# Altium integrated library NSC MiscPower.IntLib: 1417 symbols (part 11 of 39)
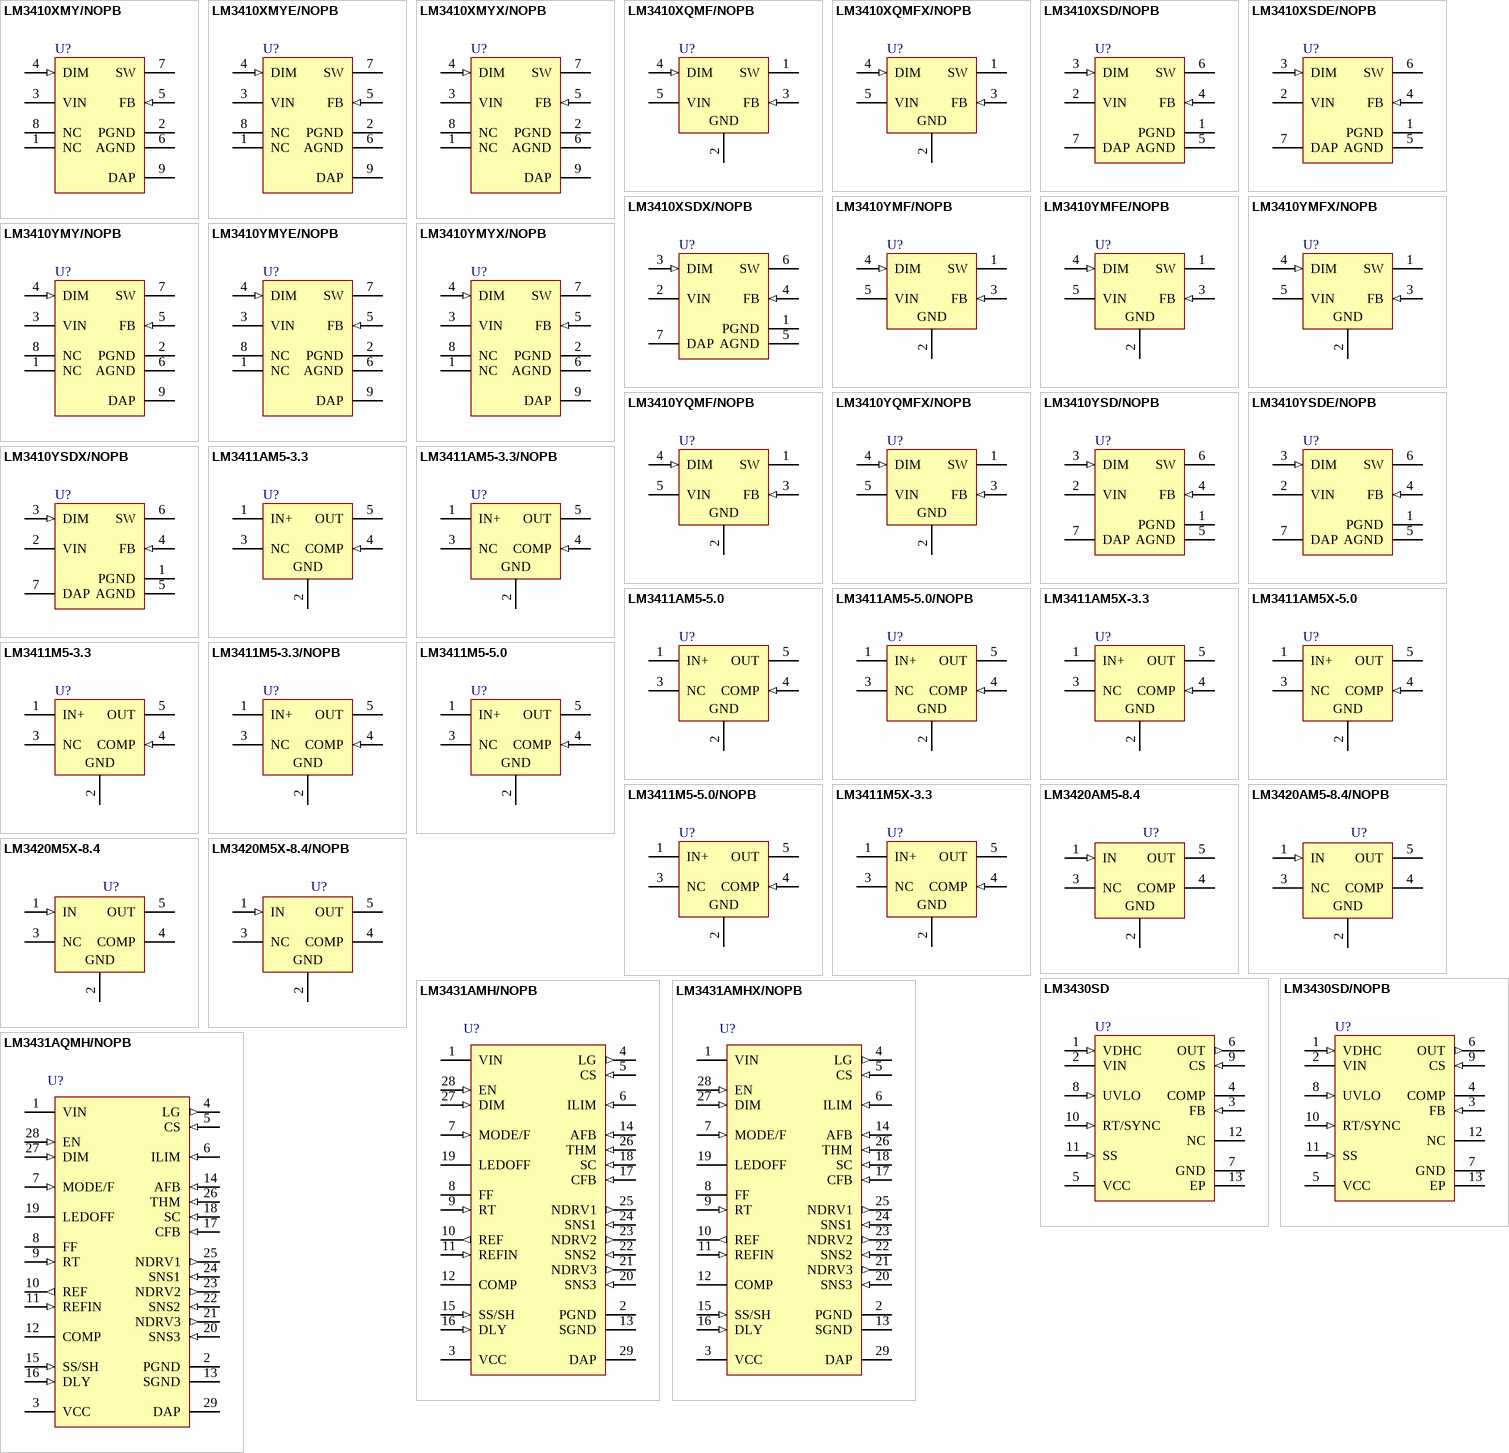
[diagram p61: symbols LM3410XMY/NOPB to LM3431AQMH/NOPB]

## LM3410YMYX/NOPB
designator U?
525kHz/1.6MHz, Constant Current Boost and SEPIC LED Driver with Internal Compensation, 8-pin eMSOP, Pb-Free; PartNumber: LM3410YMYX/NOPB; Manufacturer: National Semiconductor; PackageTopMarking: ZXTT*STAB; PowerWise: Y; CompType: MiscPower; Published: 1-Mar-2010; DatasheetVersion: May-2009; PackageVersion: revA, Nov-2003; PackageReference: MUY08A; Publisher: Altium Limited; PackageDescription: Molded Mini-SO, Exposed Pad, .118 x .118 x .034in Body, 8 Lead, .0256in Pitch; Supplier 1: Digi-Key; Supplier Part Number 1: LM3410YMYX-ND; RoHS: Y; PinCount: 8; Code_JEDEC: MO-187-AA; ComponentLink1Description: LM3410 Datasheet; ComponentLink1URL: http://www.national.com/ds/LM/LM3410.pdf; ComponentLink2Description: LM3410 Web Page; ComponentLink2URL: http://www.national.com/pf/LM/LM3410.html; ComponentLink3Description: MUY08A Package Page; ComponentLink3URL: http://www.national.com/packaging/folders/muy08a.html
footprint MUY08A_N (TSOP, 8-Leads, Body 3x3mm, Pitch 0.65mm, Exposed Pad, IPC Medium Density)
footprint MUY08A_L (TSOP, 8-Leads, Body 3x3mm, Pitch 0.65mm, Exposed Pad, IPC High Density)
footprint MUY08A_M (TSOP, 8-Leads, Body 3x3mm, Pitch 0.65mm, Exposed Pad, IPC Low Density)
pins: 1 NC, 2 PGND (power), 3 VIN (power), 4 DIM (in), 5 FB (in), 6 AGND (power), 7 SW (power), 8 NC, 9 DAP (power)

## LM3410YQMF/NOPB
designator U?
525kHz/1.6MHz, Constant Current Boost and SEPIC LED Driver with Internal Compensation, 5-pin SOT-23, Pb-Free; PartNumber: LM3410YQMF/NOPB; Manufacturer: National Semiconductor; PackageTopMarking: SXXB*XTT; PowerWise: N; CompType: MiscPower; Published: 1-Mar-2010; DatasheetVersion: May-2009; PackageVersion: revD, Aug-2008; PackageReference: MF05A; Publisher: Altium Limited; PackageDescription: Molded SOT-23, .115 x .063 x .040 in Body, 5 Lead, .0375 in Pitch; Supplier 1: Digi-Key; Supplier Part Number 1: LM3410YQMFTR-ND; Supplier 2: Digi-Key; Supplier Part Number 2: LM3410YQMFCT-ND; Supplier 3: Digi-Key; Supplier Part Number 3: LM3410YQMFDKR-ND; RoHS: Y; PinCount: 5; ComponentLink1Description: LM3410 Datasheet; ComponentLink1URL: http://www.national.com/ds/LM/LM3410.pdf; ComponentLink2Description: LM3410 Web Page; ComponentLink2URL: http://www.national.com/pf/LM/LM3410.html; ComponentLink3Description: MF05A Package Page; ComponentLink3URL: http://www.national.com/packaging/folders/mf05a.html
footprint MF05A_N (SOT23, 5-Leads, Body 2.9x1.6mm, Pitch 0.95mm, Lead Span 2.8mm, IPC Medium Density)
footprint MF05A_L (SOT23, 5-Leads, Body 2.9x1.6mm, Pitch 0.95mm, Lead Span 2.8mm, IPC High Density)
footprint MF05A_M (SOT23, 5-Leads, Body 2.9x1.6mm, Pitch 0.95mm, Lead Span 2.8mm, IPC Low Density)
pins: 1 SW (power), 2 GND (power), 3 FB (in), 4 DIM (in), 5 VIN (power)

## LM3410YQMFX/NOPB
designator U?
525kHz/1.6MHz, Constant Current Boost and SEPIC LED Driver with Internal Compensation, 5-pin SOT-23, Pb-Free; PartNumber: LM3410YQMFX/NOPB; Manufacturer: National Semiconductor; PackageTopMarking: SXXB*XTT; PowerWise: N; CompType: MiscPower; Published: 1-Mar-2010; DatasheetVersion: May-2009; PackageVersion: revD, Aug-2008; PackageReference: MF05A; Publisher: Altium Limited; PackageDescription: Molded SOT-23, .115 x .063 x .040 in Body, 5 Lead, .0375 in Pitch; Supplier 1: Digi-Key; Supplier Part Number 1: LM3410YQMFX-ND; RoHS: Y; PinCount: 5; ComponentLink1Description: LM3410 Datasheet; ComponentLink1URL: http://www.national.com/ds/LM/LM3410.pdf; ComponentLink2Description: LM3410 Web Page; ComponentLink2URL: http://www.national.com/pf/LM/LM3410.html; ComponentLink3Description: MF05A Package Page; ComponentLink3URL: http://www.national.com/packaging/folders/mf05a.html
footprint MF05A_N (SOT23, 5-Leads, Body 2.9x1.6mm, Pitch 0.95mm, Lead Span 2.8mm, IPC Medium Density)
footprint MF05A_L (SOT23, 5-Leads, Body 2.9x1.6mm, Pitch 0.95mm, Lead Span 2.8mm, IPC High Density)
footprint MF05A_M (SOT23, 5-Leads, Body 2.9x1.6mm, Pitch 0.95mm, Lead Span 2.8mm, IPC Low Density)
pins: 1 SW (power), 2 GND (power), 3 FB (in), 4 DIM (in), 5 VIN (power)

## LM3410YSD/NOPB
designator U?
525kHz/1.6MHz, Constant Current Boost and SEPIC LED Driver with Internal Compensation, 6-pin LLP, Pb-Free; PartNumber: LM3410YSD/NOPB; Manufacturer: National Semiconductor; PackageTopMarking: ZXYTT*3410Y; PowerWise: Y; CompType: MiscPower; Published: 1-Mar-2010; DatasheetVersion: May-2009; PackageVersion: revA, Jul-2003; PackageReference: SDE06A; Publisher: Altium Limited; PackageDescription: LLP, Plastic, Dual, 3 x 3 x 0.8mm Body, 6 Lead, 0.95mm Pitch, No Pullback; Supplier 1: Digi-Key; Supplier Part Number 1: LM3410YSDTR-ND; Supplier 2: Digi-Key; Supplier Part Number 2: LM3410YSDCT-ND; Supplier 3: Digi-Key; Supplier Part Number 3: LM3410YSDDKR-ND; Supplier 4: Farnell; Supplier Part Number 4: 1555102; RoHS: Y; PinCount: 6; ComponentLink1Description: LM3410 Datasheet; ComponentLink1URL: http://www.national.com/ds/LM/LM3410.pdf; ComponentLink2Description: LM3410 Web Page; ComponentLink2URL: http://www.national.com/pf/LM/LM3410.html; ComponentLink3Description: SDE06A Package Page; ComponentLink3URL: http://www.national.com/packaging/folders/sde06a.html
footprint SDE06A_full (SON, 6-Leads, Body 3x3 mm, Pitch 0.95mm, Full Paste, NSC Recommended)
footprint SDE06A_quad (SON, 6-Leads, Body 3x3 mm, Pitch 0.95mm, Quad Paste, NSC Recommended)
pins: 1 PGND (power), 2 VIN (power), 3 DIM (in), 4 FB (in), 5 AGND (power), 6 SW (power), 7 DAP (power)

## LM3410YSDE/NOPB
designator U?
525kHz/1.6MHz, Constant Current Boost and SEPIC LED Driver with Internal Compensation, 6-pin LLP, Pb-Free; PartNumber: LM3410YSDE/NOPB; Manufacturer: National Semiconductor; PackageTopMarking: ZXYTT*3410Y; PowerWise: N; CompType: MiscPower; Published: 1-Mar-2010; DatasheetVersion: May-2009; PackageVersion: revA, Jul-2003; PackageReference: SDE06A; Publisher: Altium Limited; PackageDescription: LLP, Plastic, Dual, 3 x 3 x 0.8mm Body, 6 Lead, 0.95mm Pitch, No Pullback; Supplier 1: Digi-Key; Supplier Part Number 1: LM3410YSDE-ND; RoHS: Y; PinCount: 6; ComponentLink1Description: LM3410 Datasheet; ComponentLink1URL: http://www.national.com/ds/LM/LM3410.pdf; ComponentLink2Description: LM3410 Web Page; ComponentLink2URL: http://www.national.com/pf/LM/LM3410.html; ComponentLink3Description: SDE06A Package Page; ComponentLink3URL: http://www.national.com/packaging/folders/sde06a.html
footprint SDE06A_full (SON, 6-Leads, Body 3x3 mm, Pitch 0.95mm, Full Paste, NSC Recommended)
footprint SDE06A_quad (SON, 6-Leads, Body 3x3 mm, Pitch 0.95mm, Quad Paste, NSC Recommended)
pins: 1 PGND (power), 2 VIN (power), 3 DIM (in), 4 FB (in), 5 AGND (power), 6 SW (power), 7 DAP (power)

## LM3410YSDX/NOPB
designator U?
525kHz/1.6MHz, Constant Current Boost and SEPIC LED Driver with Internal Compensation, 6-pin LLP, Pb-Free; PartNumber: LM3410YSDX/NOPB; Manufacturer: National Semiconductor; PackageTopMarking: ZXYTT*3410Y; PowerWise: Y; CompType: MiscPower; Published: 1-Mar-2010; DatasheetVersion: May-2009; PackageVersion: revA, Jul-2003; PackageReference: SDE06A; Publisher: Altium Limited; PackageDescription: LLP, Plastic, Dual, 3 x 3 x 0.8mm Body, 6 Lead, 0.95mm Pitch, No Pullback; Supplier 1: Digi-Key; Supplier Part Number 1: LM3410YSDX-ND; RoHS: Y; PinCount: 6; ComponentLink1Description: LM3410 Datasheet; ComponentLink1URL: http://www.national.com/ds/LM/LM3410.pdf; ComponentLink2Description: LM3410 Web Page; ComponentLink2URL: http://www.national.com/pf/LM/LM3410.html; ComponentLink3Description: SDE06A Package Page; ComponentLink3URL: http://www.national.com/packaging/folders/sde06a.html
footprint SDE06A_full (SON, 6-Leads, Body 3x3 mm, Pitch 0.95mm, Full Paste, NSC Recommended)
footprint SDE06A_quad (SON, 6-Leads, Body 3x3 mm, Pitch 0.95mm, Quad Paste, NSC Recommended)
pins: 1 PGND (power), 2 VIN (power), 3 DIM (in), 4 FB (in), 5 AGND (power), 6 SW (power), 7 DAP (power)

## LM3411AM5-3.3
designator U?
Precision Secondary Regulator/Driver, 5-pin SOT-23; PartNumber: LM3411AM5-3.3; Manufacturer: National Semiconductor; PackageTopMarking: D00A*XTT; PowerWise: N; CompType: MiscPower; Published: 4-Dec-2008; DatasheetVersion: Mar-2005; PackageVersion: revD, Aug-2008; PackageReference: MF05A; Publisher: Altium Limited; PackageDescription: Molded SOT-23, .115 x .063 x .040 in Body, 5 Lead, .0375 in Pitch; RoHS: N; PinCount: 5; ComponentLink1Description: LM3411 Datasheet; ComponentLink1URL: http://www.national.com/ds/LM/LM3411.pdf; ComponentLink2Description: LM3411 Web Page; ComponentLink2URL: http://www.national.com/pf/LM/LM3411.html; ComponentLink3Description: MF05A Package Page; ComponentLink3URL: http://www.national.com/packaging/folders/mf05a.html
footprint MF05A_N (SOT23, 5-Leads, Body 2.9x1.6mm, Pitch 0.95mm, Lead Span 2.8mm, IPC Medium Density)
footprint MF05A_L (SOT23, 5-Leads, Body 2.9x1.6mm, Pitch 0.95mm, Lead Span 2.8mm, IPC High Density)
footprint MF05A_M (SOT23, 5-Leads, Body 2.9x1.6mm, Pitch 0.95mm, Lead Span 2.8mm, IPC Low Density)
pins: 1 IN+ (power), 2 GND (power), 3 NC, 4 COMP (in), 5 OUT (power)

## LM3411AM5-3.3/NOPB
designator U?
Precision Secondary Regulator/Driver, 5-pin SOT-23, Pb-Free; PartNumber: LM3411AM5-3.3/NOPB; Manufacturer: National Semiconductor; PackageTopMarking: D00A*XTT; PowerWise: N; CompType: MiscPower; Published: 1-Mar-2010; DatasheetVersion: Mar-2005; PackageVersion: revD, Aug-2008; PackageReference: MF05A; Publisher: Altium Limited; PackageDescription: Molded SOT-23, .115 x .063 x .040 in Body, 5 Lead, .0375 in Pitch; Supplier 1: Digi-Key; Supplier Part Number 1: LM3411AM5-3.3TR-ND; Supplier 2: Digi-Key; Supplier Part Number 2: LM3411AM5-3.3CT-ND; Supplier 3: Digi-Key; Supplier Part Number 3: LM3411AM5-3.3DKR-ND; RoHS: Y; PinCount: 5; ComponentLink1Description: LM3411 Datasheet; ComponentLink1URL: http://www.national.com/ds/LM/LM3411.pdf; ComponentLink2Description: LM3411 Web Page; ComponentLink2URL: http://www.national.com/pf/LM/LM3411.html; ComponentLink3Description: MF05A Package Page; ComponentLink3URL: http://www.national.com/packaging/folders/mf05a.html
footprint MF05A_N (SOT23, 5-Leads, Body 2.9x1.6mm, Pitch 0.95mm, Lead Span 2.8mm, IPC Medium Density)
footprint MF05A_L (SOT23, 5-Leads, Body 2.9x1.6mm, Pitch 0.95mm, Lead Span 2.8mm, IPC High Density)
footprint MF05A_M (SOT23, 5-Leads, Body 2.9x1.6mm, Pitch 0.95mm, Lead Span 2.8mm, IPC Low Density)
pins: 1 IN+ (power), 2 GND (power), 3 NC, 4 COMP (in), 5 OUT (power)

## LM3411AM5-5.0
designator U?
Precision Secondary Regulator/Driver, 5-pin SOT-23; PartNumber: LM3411AM5-5.0; Manufacturer: National Semiconductor; PackageTopMarking: D01A*XTT; PowerWise: N; CompType: MiscPower; Published: 4-Dec-2008; DatasheetVersion: Mar-2005; PackageVersion: revD, Aug-2008; PackageReference: MF05A; Publisher: Altium Limited; PackageDescription: Molded SOT-23, .115 x .063 x .040 in Body, 5 Lead, .0375 in Pitch; Supplier 1: Digi-Key; Supplier Part Number 1: LM3411AM5-5.0TR-ND; Supplier 2: Digi-Key; Supplier Part Number 2: LM3411AM5-5.0CT-ND; RoHS: N; PinCount: 5; ComponentLink1Description: LM3411 Datasheet; ComponentLink1URL: http://www.national.com/ds/LM/LM3411.pdf; ComponentLink2Description: LM3411 Web Page; ComponentLink2URL: http://www.national.com/pf/LM/LM3411.html; ComponentLink3Description: MF05A Package Page; ComponentLink3URL: http://www.national.com/packaging/folders/mf05a.html
footprint MF05A_N (SOT23, 5-Leads, Body 2.9x1.6mm, Pitch 0.95mm, Lead Span 2.8mm, IPC Medium Density)
footprint MF05A_L (SOT23, 5-Leads, Body 2.9x1.6mm, Pitch 0.95mm, Lead Span 2.8mm, IPC High Density)
footprint MF05A_M (SOT23, 5-Leads, Body 2.9x1.6mm, Pitch 0.95mm, Lead Span 2.8mm, IPC Low Density)
pins: 1 IN+ (power), 2 GND (power), 3 NC, 4 COMP (in), 5 OUT (power)

## LM3411AM5-5.0/NOPB
designator U?
Precision Secondary Regulator/Driver, 5-pin SOT-23, Pb-Free; PartNumber: LM3411AM5-5.0/NOPB; Manufacturer: National Semiconductor; PackageTopMarking: D01A*XTT; PowerWise: N; CompType: MiscPower; Published: 1-Mar-2010; DatasheetVersion: Mar-2005; PackageVersion: revD, Aug-2008; PackageReference: MF05A; Publisher: Altium Limited; PackageDescription: Molded SOT-23, .115 x .063 x .040 in Body, 5 Lead, .0375 in Pitch; Supplier 1: Digi-Key; Supplier Part Number 1: LM3411AM5-5.0/NOPBTR-ND; Supplier 2: Digi-Key; Supplier Part Number 2: LM3411AM5-5.0/NOPBCT-ND; Supplier 3: Digi-Key; Supplier Part Number 3: LM3411AM5-5.0/NOPBDKR-ND; Supplier 4: Farnell; Supplier Part Number 4: 1685647; RoHS: Y; PinCount: 5; ComponentLink1Description: LM3411 Datasheet; ComponentLink1URL: http://www.national.com/ds/LM/LM3411.pdf; ComponentLink2Description: LM3411 Web Page; ComponentLink2URL: http://www.national.com/pf/LM/LM3411.html; ComponentLink3Description: MF05A Package Page; ComponentLink3URL: http://www.national.com/packaging/folders/mf05a.html
footprint MF05A_N (SOT23, 5-Leads, Body 2.9x1.6mm, Pitch 0.95mm, Lead Span 2.8mm, IPC Medium Density)
footprint MF05A_L (SOT23, 5-Leads, Body 2.9x1.6mm, Pitch 0.95mm, Lead Span 2.8mm, IPC High Density)
footprint MF05A_M (SOT23, 5-Leads, Body 2.9x1.6mm, Pitch 0.95mm, Lead Span 2.8mm, IPC Low Density)
pins: 1 IN+ (power), 2 GND (power), 3 NC, 4 COMP (in), 5 OUT (power)

## LM3411AM5X-3.3
designator U?
Precision Secondary Regulator/Driver, 5-pin SOT-23; PartNumber: LM3411AM5X-3.3; Manufacturer: National Semiconductor; PackageTopMarking: D00A*XTT; PowerWise: N; CompType: MiscPower; Published: 1-Mar-2010; DatasheetVersion: Mar-2005; PackageVersion: revD, Aug-2008; PackageReference: MF05A; Publisher: Altium Limited; PackageDescription: Molded SOT-23, .115 x .063 x .040 in Body, 5 Lead, .0375 in Pitch; RoHS: N; PinCount: 5; ComponentLink1Description: LM3411 Datasheet; ComponentLink1URL: http://www.national.com/ds/LM/LM3411.pdf; ComponentLink2Description: LM3411 Web Page; ComponentLink2URL: http://www.national.com/pf/LM/LM3411.html; ComponentLink3Description: MF05A Package Page; ComponentLink3URL: http://www.national.com/packaging/folders/mf05a.html
footprint MF05A_N (SOT23, 5-Leads, Body 2.9x1.6mm, Pitch 0.95mm, Lead Span 2.8mm, IPC Medium Density)
footprint MF05A_L (SOT23, 5-Leads, Body 2.9x1.6mm, Pitch 0.95mm, Lead Span 2.8mm, IPC High Density)
footprint MF05A_M (SOT23, 5-Leads, Body 2.9x1.6mm, Pitch 0.95mm, Lead Span 2.8mm, IPC Low Density)
pins: 1 IN+ (power), 2 GND (power), 3 NC, 4 COMP (in), 5 OUT (power)

## LM3411AM5X-5.0
designator U?
Precision Secondary Regulator/Driver, 5-pin SOT-23; PartNumber: LM3411AM5X-5.0; Manufacturer: National Semiconductor; PackageTopMarking: D01A*XTT; PowerWise: N; CompType: MiscPower; Published: 1-Mar-2010; DatasheetVersion: Mar-2005; PackageVersion: revD, Aug-2008; PackageReference: MF05A; Publisher: Altium Limited; PackageDescription: Molded SOT-23, .115 x .063 x .040 in Body, 5 Lead, .0375 in Pitch; Supplier 1: Digi-Key; Supplier Part Number 1: LM3411AM5X-5.0-ND; RoHS: N; PinCount: 5; ComponentLink1Description: LM3411 Datasheet; ComponentLink1URL: http://www.national.com/ds/LM/LM3411.pdf; ComponentLink2Description: LM3411 Web Page; ComponentLink2URL: http://www.national.com/pf/LM/LM3411.html; ComponentLink3Description: MF05A Package Page; ComponentLink3URL: http://www.national.com/packaging/folders/mf05a.html
footprint MF05A_N (SOT23, 5-Leads, Body 2.9x1.6mm, Pitch 0.95mm, Lead Span 2.8mm, IPC Medium Density)
footprint MF05A_L (SOT23, 5-Leads, Body 2.9x1.6mm, Pitch 0.95mm, Lead Span 2.8mm, IPC High Density)
footprint MF05A_M (SOT23, 5-Leads, Body 2.9x1.6mm, Pitch 0.95mm, Lead Span 2.8mm, IPC Low Density)
pins: 1 IN+ (power), 2 GND (power), 3 NC, 4 COMP (in), 5 OUT (power)

## LM3411M5-3.3
designator U?
Precision Secondary Regulator/Driver, 5-pin SOT-23; PartNumber: LM3411M5-3.3; Manufacturer: National Semiconductor; PackageTopMarking: D00B*XTT; PowerWise: N; CompType: MiscPower; Published: 4-Dec-2008; DatasheetVersion: Mar-2005; PackageVersion: revD, Aug-2008; PackageReference: MF05A; Publisher: Altium Limited; PackageDescription: Molded SOT-23, .115 x .063 x .040 in Body, 5 Lead, .0375 in Pitch; RoHS: N; PinCount: 5; ComponentLink1Description: LM3411 Datasheet; ComponentLink1URL: http://www.national.com/ds/LM/LM3411.pdf; ComponentLink2Description: LM3411 Web Page; ComponentLink2URL: http://www.national.com/pf/LM/LM3411.html; ComponentLink3Description: MF05A Package Page; ComponentLink3URL: http://www.national.com/packaging/folders/mf05a.html
footprint MF05A_N (SOT23, 5-Leads, Body 2.9x1.6mm, Pitch 0.95mm, Lead Span 2.8mm, IPC Medium Density)
footprint MF05A_L (SOT23, 5-Leads, Body 2.9x1.6mm, Pitch 0.95mm, Lead Span 2.8mm, IPC High Density)
footprint MF05A_M (SOT23, 5-Leads, Body 2.9x1.6mm, Pitch 0.95mm, Lead Span 2.8mm, IPC Low Density)
pins: 1 IN+ (power), 2 GND (power), 3 NC, 4 COMP (in), 5 OUT (power)

## LM3411M5-3.3/NOPB
designator U?
Precision Secondary Regulator/Driver, 5-pin SOT-23, Pb-Free; PartNumber: LM3411M5-3.3/NOPB; Manufacturer: National Semiconductor; PackageTopMarking: D00B*XTT; PowerWise: N; CompType: MiscPower; Published: 1-Mar-2010; DatasheetVersion: Mar-2005; PackageVersion: revD, Aug-2008; PackageReference: MF05A; Publisher: Altium Limited; PackageDescription: Molded SOT-23, .115 x .063 x .040 in Body, 5 Lead, .0375 in Pitch; Supplier 1: Digi-Key; Supplier Part Number 1: LM3411M5-3.3TR-ND; Supplier 2: Digi-Key; Supplier Part Number 2: LM3411M5-3.3CT-ND; Supplier 3: Digi-Key; Supplier Part Number 3: LM3411M5-3.3DKR-ND; RoHS: Y; PinCount: 5; ComponentLink1Description: LM3411 Datasheet; ComponentLink1URL: http://www.national.com/ds/LM/LM3411.pdf; ComponentLink2Description: LM3411 Web Page; ComponentLink2URL: http://www.national.com/pf/LM/LM3411.html; ComponentLink3Description: MF05A Package Page; ComponentLink3URL: http://www.national.com/packaging/folders/mf05a.html
footprint MF05A_N (SOT23, 5-Leads, Body 2.9x1.6mm, Pitch 0.95mm, Lead Span 2.8mm, IPC Medium Density)
footprint MF05A_L (SOT23, 5-Leads, Body 2.9x1.6mm, Pitch 0.95mm, Lead Span 2.8mm, IPC High Density)
footprint MF05A_M (SOT23, 5-Leads, Body 2.9x1.6mm, Pitch 0.95mm, Lead Span 2.8mm, IPC Low Density)
pins: 1 IN+ (power), 2 GND (power), 3 NC, 4 COMP (in), 5 OUT (power)

## LM3411M5-5.0
designator U?
Precision Secondary Regulator/Driver, 5-pin SOT-23; PartNumber: LM3411M5-5.0; Manufacturer: National Semiconductor; PackageTopMarking: D01B*XTT; PowerWise: N; CompType: MiscPower; Published: 4-Dec-2008; DatasheetVersion: Mar-2005; PackageVersion: revD, Aug-2008; PackageReference: MF05A; Publisher: Altium Limited; PackageDescription: Molded SOT-23, .115 x .063 x .040 in Body, 5 Lead, .0375 in Pitch; RoHS: N; PinCount: 5; ComponentLink1Description: LM3411 Datasheet; ComponentLink1URL: http://www.national.com/ds/LM/LM3411.pdf; ComponentLink2Description: LM3411 Web Page; ComponentLink2URL: http://www.national.com/pf/LM/LM3411.html; ComponentLink3Description: MF05A Package Page; ComponentLink3URL: http://www.national.com/packaging/folders/mf05a.html
footprint MF05A_N (SOT23, 5-Leads, Body 2.9x1.6mm, Pitch 0.95mm, Lead Span 2.8mm, IPC Medium Density)
footprint MF05A_L (SOT23, 5-Leads, Body 2.9x1.6mm, Pitch 0.95mm, Lead Span 2.8mm, IPC High Density)
footprint MF05A_M (SOT23, 5-Leads, Body 2.9x1.6mm, Pitch 0.95mm, Lead Span 2.8mm, IPC Low Density)
pins: 1 IN+ (power), 2 GND (power), 3 NC, 4 COMP (in), 5 OUT (power)

## LM3411M5-5.0/NOPB
designator U?
Precision Secondary Regulator/Driver, 5-pin SOT-23, Pb-Free; PartNumber: LM3411M5-5.0/NOPB; Manufacturer: National Semiconductor; PackageTopMarking: D01B*XTT; PowerWise: N; CompType: MiscPower; Published: 1-Mar-2010; DatasheetVersion: Mar-2005; PackageVersion: revD, Aug-2008; PackageReference: MF05A; Publisher: Altium Limited; PackageDescription: Molded SOT-23, .115 x .063 x .040 in Body, 5 Lead, .0375 in Pitch; Supplier 1: Digi-Key; Supplier Part Number 1: LM3411M5-5.0TR-ND; Supplier 2: Digi-Key; Supplier Part Number 2: LM3411M5-5.0CT-ND; Supplier 3: Digi-Key; Supplier Part Number 3: LM3411M5-5.0DKR-ND; Supplier 4: Farnell; Supplier Part Number 4: 1685576; RoHS: Y; PinCount: 5; ComponentLink1Description: LM3411 Datasheet; ComponentLink1URL: http://www.national.com/ds/LM/LM3411.pdf; ComponentLink2Description: LM3411 Web Page; ComponentLink2URL: http://www.national.com/pf/LM/LM3411.html; ComponentLink3Description: MF05A Package Page; ComponentLink3URL: http://www.national.com/packaging/folders/mf05a.html
footprint MF05A_N (SOT23, 5-Leads, Body 2.9x1.6mm, Pitch 0.95mm, Lead Span 2.8mm, IPC Medium Density)
footprint MF05A_L (SOT23, 5-Leads, Body 2.9x1.6mm, Pitch 0.95mm, Lead Span 2.8mm, IPC High Density)
footprint MF05A_M (SOT23, 5-Leads, Body 2.9x1.6mm, Pitch 0.95mm, Lead Span 2.8mm, IPC Low Density)
pins: 1 IN+ (power), 2 GND (power), 3 NC, 4 COMP (in), 5 OUT (power)

## LM3411M5X-3.3
designator U?
Precision Secondary Regulator/Driver, 5-pin SOT-23; PartNumber: LM3411M5X-3.3; Manufacturer: National Semiconductor; PackageTopMarking: D00B*XTT; PowerWise: N; CompType: MiscPower; Published: 1-Mar-2010; DatasheetVersion: Mar-2005; PackageVersion: revD, Aug-2008; PackageReference: MF05A; Publisher: Altium Limited; PackageDescription: Molded SOT-23, .115 x .063 x .040 in Body, 5 Lead, .0375 in Pitch; RoHS: N; PinCount: 5; ComponentLink1Description: LM3411 Datasheet; ComponentLink1URL: http://www.national.com/ds/LM/LM3411.pdf; ComponentLink2Description: LM3411 Web Page; ComponentLink2URL: http://www.national.com/pf/LM/LM3411.html; ComponentLink3Description: MF05A Package Page; ComponentLink3URL: http://www.national.com/packaging/folders/mf05a.html
footprint MF05A_N (SOT23, 5-Leads, Body 2.9x1.6mm, Pitch 0.95mm, Lead Span 2.8mm, IPC Medium Density)
footprint MF05A_L (SOT23, 5-Leads, Body 2.9x1.6mm, Pitch 0.95mm, Lead Span 2.8mm, IPC High Density)
footprint MF05A_M (SOT23, 5-Leads, Body 2.9x1.6mm, Pitch 0.95mm, Lead Span 2.8mm, IPC Low Density)
pins: 1 IN+ (power), 2 GND (power), 3 NC, 4 COMP (in), 5 OUT (power)

## LM3420AM5-8.4
designator U?
Lithium-Ion Battery Charge Controller, 5-pin SOT-23; PartNumber: LM3420AM5-8.4; Manufacturer: National Semiconductor; PackageTopMarking: D03A*XTT; PowerWise: N; CompType: MiscPower; Published: 4-Dec-2008; DatasheetVersion: Jul-2000; PackageVersion: revD, Aug-2008; PackageReference: MF05A; Publisher: Altium Limited; PackageDescription: Molded SOT-23, .115 x .063 x .040 in Body, 5 Lead, .0375 in Pitch; RoHS: N; PinCount: 5; ComponentLink1Description: LM3420 Datasheet; ComponentLink1URL: http://www.national.com/ds/LM/LM3420.pdf; ComponentLink2Description: LM3420 Web Page; ComponentLink2URL: http://www.national.com/pf/LM/LM3420.html; ComponentLink3Description: MF05A Package Page; ComponentLink3URL: http://www.national.com/packaging/folders/mf05a.html
footprint MF05A_N (SOT23, 5-Leads, Body 2.9x1.6mm, Pitch 0.95mm, Lead Span 2.8mm, IPC Medium Density)
footprint MF05A_L (SOT23, 5-Leads, Body 2.9x1.6mm, Pitch 0.95mm, Lead Span 2.8mm, IPC High Density)
footprint MF05A_M (SOT23, 5-Leads, Body 2.9x1.6mm, Pitch 0.95mm, Lead Span 2.8mm, IPC Low Density)
pins: 1 IN (in), 2 GND (power), 3 NC, 4 COMP, 5 OUT (oe)

## LM3420AM5-8.4/NOPB
designator U?
Lithium-Ion Battery Charge Controller, 5-pin SOT-23, Pb-Free; PartNumber: LM3420AM5-8.4/NOPB; Manufacturer: National Semiconductor; PackageTopMarking: D03A*XTT; PowerWise: N; CompType: MiscPower; Published: 1-Mar-2010; DatasheetVersion: Jul-2000; PackageVersion: revD, Aug-2008; PackageReference: MF05A; Publisher: Altium Limited; PackageDescription: Molded SOT-23, .115 x .063 x .040 in Body, 5 Lead, .0375 in Pitch; Supplier 1: Digi-Key; Supplier Part Number 1: LM3420AM5-8.4TR-ND; Supplier 2: Digi-Key; Supplier Part Number 2: LM3420AM5-8.4CT-ND; Supplier 3: Digi-Key; Supplier Part Number 3: LM3420AM5-8.4DKR-ND; RoHS: Y; PinCount: 5; ComponentLink1Description: LM3420 Datasheet; ComponentLink1URL: http://www.national.com/ds/LM/LM3420.pdf; ComponentLink2Description: LM3420 Web Page; ComponentLink2URL: http://www.national.com/pf/LM/LM3420.html; ComponentLink3Description: MF05A Package Page; ComponentLink3URL: http://www.national.com/packaging/folders/mf05a.html
footprint MF05A_N (SOT23, 5-Leads, Body 2.9x1.6mm, Pitch 0.95mm, Lead Span 2.8mm, IPC Medium Density)
footprint MF05A_L (SOT23, 5-Leads, Body 2.9x1.6mm, Pitch 0.95mm, Lead Span 2.8mm, IPC High Density)
footprint MF05A_M (SOT23, 5-Leads, Body 2.9x1.6mm, Pitch 0.95mm, Lead Span 2.8mm, IPC Low Density)
pins: 1 IN (in), 2 GND (power), 3 NC, 4 COMP, 5 OUT (oe)

## LM3420M5X-8.4
designator U?
Lithium-Ion Battery Charge Controller, 5-pin SOT-23; PartNumber: LM3420M5X-8.4; Manufacturer: National Semiconductor; PackageTopMarking: D03B*XTT; PowerWise: N; CompType: MiscPower; Published: 1-Mar-2010; DatasheetVersion: Jul-2000; PackageVersion: revD, Aug-2008; PackageReference: MF05A; Publisher: Altium Limited; PackageDescription: Molded SOT-23, .115 x .063 x .040 in Body, 5 Lead, .0375 in Pitch; Supplier 1: Digi-Key; Supplier Part Number 1: LM3420M5X-8.4-ND; RoHS: N; PinCount: 5; ComponentLink1Description: LM3420 Datasheet; ComponentLink1URL: http://www.national.com/ds/LM/LM3420.pdf; ComponentLink2Description: LM3420 Web Page; ComponentLink2URL: http://www.national.com/pf/LM/LM3420.html; ComponentLink3Description: MF05A Package Page; ComponentLink3URL: http://www.national.com/packaging/folders/mf05a.html
footprint MF05A_N (SOT23, 5-Leads, Body 2.9x1.6mm, Pitch 0.95mm, Lead Span 2.8mm, IPC Medium Density)
footprint MF05A_L (SOT23, 5-Leads, Body 2.9x1.6mm, Pitch 0.95mm, Lead Span 2.8mm, IPC High Density)
footprint MF05A_M (SOT23, 5-Leads, Body 2.9x1.6mm, Pitch 0.95mm, Lead Span 2.8mm, IPC Low Density)
pins: 1 IN (in), 2 GND (power), 3 NC, 4 COMP, 5 OUT (oe)

## LM3420M5X-8.4/NOPB
designator U?
Lithium-Ion Battery Charge Controller, 5-pin SOT-23, Pb-Free; PartNumber: LM3420M5X-8.4/NOPB; Manufacturer: National Semiconductor; PackageTopMarking: D03B*XTT; PowerWise: N; CompType: MiscPower; Published: 1-Mar-2010; DatasheetVersion: Jul-2000; PackageVersion: revD, Aug-2008; PackageReference: MF05A; Publisher: Altium Limited; PackageDescription: Molded SOT-23, .115 x .063 x .040 in Body, 5 Lead, .0375 in Pitch; RoHS: Y; PinCount: 5; ComponentLink1Description: LM3420 Datasheet; ComponentLink1URL: http://www.national.com/ds/LM/LM3420.pdf; ComponentLink2Description: LM3420 Web Page; ComponentLink2URL: http://www.national.com/pf/LM/LM3420.html; ComponentLink3Description: MF05A Package Page; ComponentLink3URL: http://www.national.com/packaging/folders/mf05a.html
footprint MF05A_N (SOT23, 5-Leads, Body 2.9x1.6mm, Pitch 0.95mm, Lead Span 2.8mm, IPC Medium Density)
footprint MF05A_L (SOT23, 5-Leads, Body 2.9x1.6mm, Pitch 0.95mm, Lead Span 2.8mm, IPC High Density)
footprint MF05A_M (SOT23, 5-Leads, Body 2.9x1.6mm, Pitch 0.95mm, Lead Span 2.8mm, IPC Low Density)
pins: 1 IN (in), 2 GND (power), 3 NC, 4 COMP, 5 OUT (oe)

## LM3430SD
designator U?
Boost Controller for LED Backlighting, 12-pin LLP; PartNumber: LM3430SD; Manufacturer: National Semiconductor; PackageTopMarking: ZXYTT*L3430; PowerWise: Y; CompType: MiscPower; Published: 4-Dec-2008; DatasheetVersion: Jan-2007; PackageVersion: revB, Jul-2008; PackageReference: SDF12A; Publisher: Altium Limited; PackageDescription: LLP, Plastic, Dual, 3 x 3 x 0.8mm Body, 12 Lead, 0.4mm Pitch, No Pullback; Supplier 1: Farnell; Supplier Part Number 1: 1325424; RoHS: N; PinCount: 12; ComponentLink1Description: LM3430 Datasheet; ComponentLink1URL: http://www.national.com/ds/LM/LM3430.pdf; ComponentLink2Description: LM3430 Web Page; ComponentLink2URL: http://www.national.com/pf/LM/LM3430.html; ComponentLink3Description: SDF12A Package Page; ComponentLink3URL: http://www.national.com/packaging/folders/sdf12a.html
footprint SDF12A (SON, 12-Leads, Body 3x3mm, Pitch 0.4mm, NSC Recommended)
pins: 1 VDHC (in), 2 VIN (power), 3 FB (in), 4 COMP, 5 VCC (power), 6 OUT (out), 7 GND (power), 8 UVLO (in), 9 CS (in), 10 RT/SYNC (in), 11 SS (in), 12 NC, 13 EP (power)

## LM3430SD/NOPB
designator U?
Boost Controller for LED Backlighting, 12-pin LLP, Pb-Free; PartNumber: LM3430SD/NOPB; Manufacturer: National Semiconductor; PackageTopMarking: ZXYTT*L3430; PowerWise: Y; CompType: MiscPower; Published: 1-Mar-2010; DatasheetVersion: Jan-2007; PackageVersion: revB, Jul-2008; PackageReference: SDF12A; Publisher: Altium Limited; PackageDescription: LLP, Plastic, Dual, 3 x 3 x 0.8mm Body, 12 Lead, 0.4mm Pitch, No Pullback; Supplier 1: Digi-Key; Supplier Part Number 1: LM3430SDTR-ND; Supplier 2: Digi-Key; Supplier Part Number 2: LM3430SDCT-ND; Supplier 3: Digi-Key; Supplier Part Number 3: LM3430SDDKR-ND; Supplier 4: Farnell; Supplier Part Number 4: 1675268; RoHS: Y; PinCount: 12; ComponentLink1Description: LM3430 Datasheet; ComponentLink1URL: http://www.national.com/ds/LM/LM3430.pdf; ComponentLink2Description: LM3430 Web Page; ComponentLink2URL: http://www.national.com/pf/LM/LM3430.html; ComponentLink3Description: SDF12A Package Page; ComponentLink3URL: http://www.national.com/packaging/folders/sdf12a.html
footprint SDF12A (SON, 12-Leads, Body 3x3mm, Pitch 0.4mm, NSC Recommended)
pins: 1 VDHC (in), 2 VIN (power), 3 FB (in), 4 COMP, 5 VCC (power), 6 OUT (out), 7 GND (power), 8 UVLO (in), 9 CS (in), 10 RT/SYNC (in), 11 SS (in), 12 NC, 13 EP (power)

## LM3431AMH/NOPB
designator U?
3-Channel Constant Current LED Driver with Integrated Boost Controller, 28-pin TSSOP-EP, Pb-Free; PartNumber: LM3431AMH/NOPB; Manufacturer: National Semiconductor; PackageTopMarking: NSUZXYTTE#*LM3431AMH; PowerWise: Y; CompType: MiscPower; Published: 1-Mar-2010; DatasheetVersion: Mar-2009; PackageVersion: revD, Oct-2003; PackageReference: MXA28A; Publisher: Altium Limited; PackageDescription: Molded TSSOP, Jedec, 9.7 x 4.4 x 0.9mm Body, 28 Lead, 0.65mm Pitch, Exposed Pad; Supplier 1: Digi-Key; Supplier Part Number 1: LM3431AMH-ND; RoHS: Y; PinCount: 28; Code_JEDEC: MO-153-AET; ComponentLink1Description: LM3431 Datasheet; ComponentLink1URL: http://www.national.com/ds/LM/LM3431.pdf; ComponentLink2Description: LM3431 Web Page; ComponentLink2URL: http://www.national.com/pf/LM/LM3431.html; ComponentLink3Description: MXA28A Package Page; ComponentLink3URL: http://www.national.com/packaging/folders/mxa28a.html
footprint MXA28A_N (TSOP, 28-Leads, Body 9.7x4.4mm, Pitch 0.65mm, Exposed Pad, IPC Medium Density)
footprint MXA28A_L (TSOP, 28-Leads, Body 9.7x4.4mm, Pitch 0.65mm, Exposed Pad, IPC High Density)
footprint MXA28A_M (TSOP, 28-Leads, Body 9.7x4.4mm, Pitch 0.65mm, Exposed Pad, IPC Low Density)
pins: 1 VIN (power), 2 PGND (power), 3 VCC (power), 4 LG (out), 5 CS (in), 6 ILIM (in), 7 MODE/F (in), 8 FF, 9 RT (in), 10 REF (out), 11 REFIN (in), 12 COMP, 13 SGND (power), 14 AFB (in), 15 SS/SH (in), 16 DLY (in), 17 CFB (in), 18 SC (in), 19 LEDOFF, 20 SNS3 (in), 21 NDRV3 (out), 22 SNS2 (in), 23 NDRV2 (out), 24 SNS1 (in), 25 NDRV1 (out), 26 THM (in), 27 DIM (in), 28 EN (in), 29 DAP (power)

## LM3431AMHX/NOPB
designator U?
3-Channel Constant Current LED Driver with Integrated Boost Controller, 28-pin TSSOP-EP, Pb-Free; PartNumber: LM3431AMHX/NOPB; Manufacturer: National Semiconductor; PackageTopMarking: NSUZXYTTE#*LM3431AMH; PowerWise: Y; CompType: MiscPower; Published: 1-Mar-2010; DatasheetVersion: Jan-2008; PackageVersion: revD, Oct-2003; PackageReference: MXA28A; Publisher: Altium Limited; PackageDescription: Molded TSSOP, Jedec, 9.7 x 4.4 x 0.9mm Body, 28 Lead, 0.65mm Pitch, Exposed Pad; Supplier 1: Digi-Key; Supplier Part Number 1: LM3431AMHX-ND; RoHS: Y; PinCount: 28; Code_JEDEC: MO-153-AET; ComponentLink1Description: LM3431 Datasheet; ComponentLink1URL: http://www.national.com/ds/LM/LM3431.pdf; ComponentLink2Description: LM3431 Web Page; ComponentLink2URL: http://www.national.com/pf/LM/LM3431.html; ComponentLink3Description: MXA28A Package Page; ComponentLink3URL: http://www.national.com/packaging/folders/mxa28a.html
footprint MXA28A_N (TSOP, 28-Leads, Body 9.7x4.4mm, Pitch 0.65mm, Exposed Pad, IPC Medium Density)
footprint MXA28A_L (TSOP, 28-Leads, Body 9.7x4.4mm, Pitch 0.65mm, Exposed Pad, IPC High Density)
footprint MXA28A_M (TSOP, 28-Leads, Body 9.7x4.4mm, Pitch 0.65mm, Exposed Pad, IPC Low Density)
pins: 1 VIN (power), 2 PGND (power), 3 VCC (power), 4 LG (out), 5 CS (in), 6 ILIM (in), 7 MODE/F (in), 8 FF, 9 RT (in), 10 REF (out), 11 REFIN (in), 12 COMP, 13 SGND (power), 14 AFB (in), 15 SS/SH (in), 16 DLY (in), 17 CFB (in), 18 SC (in), 19 LEDOFF, 20 SNS3 (in), 21 NDRV3 (out), 22 SNS2 (in), 23 NDRV2 (out), 24 SNS1 (in), 25 NDRV1 (out), 26 THM (in), 27 DIM (in), 28 EN (in), 29 DAP (power)

## LM3431AQMH/NOPB
designator U?
3-Channel Constant Current LED Driver with Integrated Boost Controller, 28-pin TSSOP-EP, Pb-Free; PartNumber: LM3431AQMH/NOPB; Manufacturer: National Semiconductor; PackageTopMarking: NSUZXYTTE#*LM3431*AQMH; PowerWise: N; CompType: MiscPower; Published: 1-Mar-2010; DatasheetVersion: Mar-2009; PackageVersion: revD, Oct-2003; PackageReference: MXA28A; Publisher: Altium Limited; PackageDescription: Molded TSSOP, Jedec, 9.7 x 4.4 x 0.9mm Body, 28 Lead, 0.65mm Pitch, Exposed Pad; Supplier 1: Digi-Key; Supplier Part Number 1: LM3431AQMH-ND; RoHS: Y; PinCount: 28; Code_JEDEC: MO-153-AET; ComponentLink1Description: LM3431 Datasheet; ComponentLink1URL: http://www.national.com/ds/LM/LM3431.pdf; ComponentLink2Description: LM3431 Web Page; ComponentLink2URL: http://www.national.com/pf/LM/LM3431.html; ComponentLink3Description: MXA28A Package Page; ComponentLink3URL: http://www.national.com/packaging/folders/mxa28a.html
footprint MXA28A_N (TSOP, 28-Leads, Body 9.7x4.4mm, Pitch 0.65mm, Exposed Pad, IPC Medium Density)
footprint MXA28A_L (TSOP, 28-Leads, Body 9.7x4.4mm, Pitch 0.65mm, Exposed Pad, IPC High Density)
footprint MXA28A_M (TSOP, 28-Leads, Body 9.7x4.4mm, Pitch 0.65mm, Exposed Pad, IPC Low Density)
pins: 1 VIN (power), 2 PGND (power), 3 VCC (power), 4 LG (out), 5 CS (in), 6 ILIM (in), 7 MODE/F (in), 8 FF, 9 RT (in), 10 REF (out), 11 REFIN (in), 12 COMP, 13 SGND (power), 14 AFB (in), 15 SS/SH (in), 16 DLY (in), 17 CFB (in), 18 SC (in), 19 LEDOFF, 20 SNS3 (in), 21 NDRV3 (out), 22 SNS2 (in), 23 NDRV2 (out), 24 SNS1 (in), 25 NDRV1 (out), 26 THM (in), 27 DIM (in), 28 EN (in), 29 DAP (power)

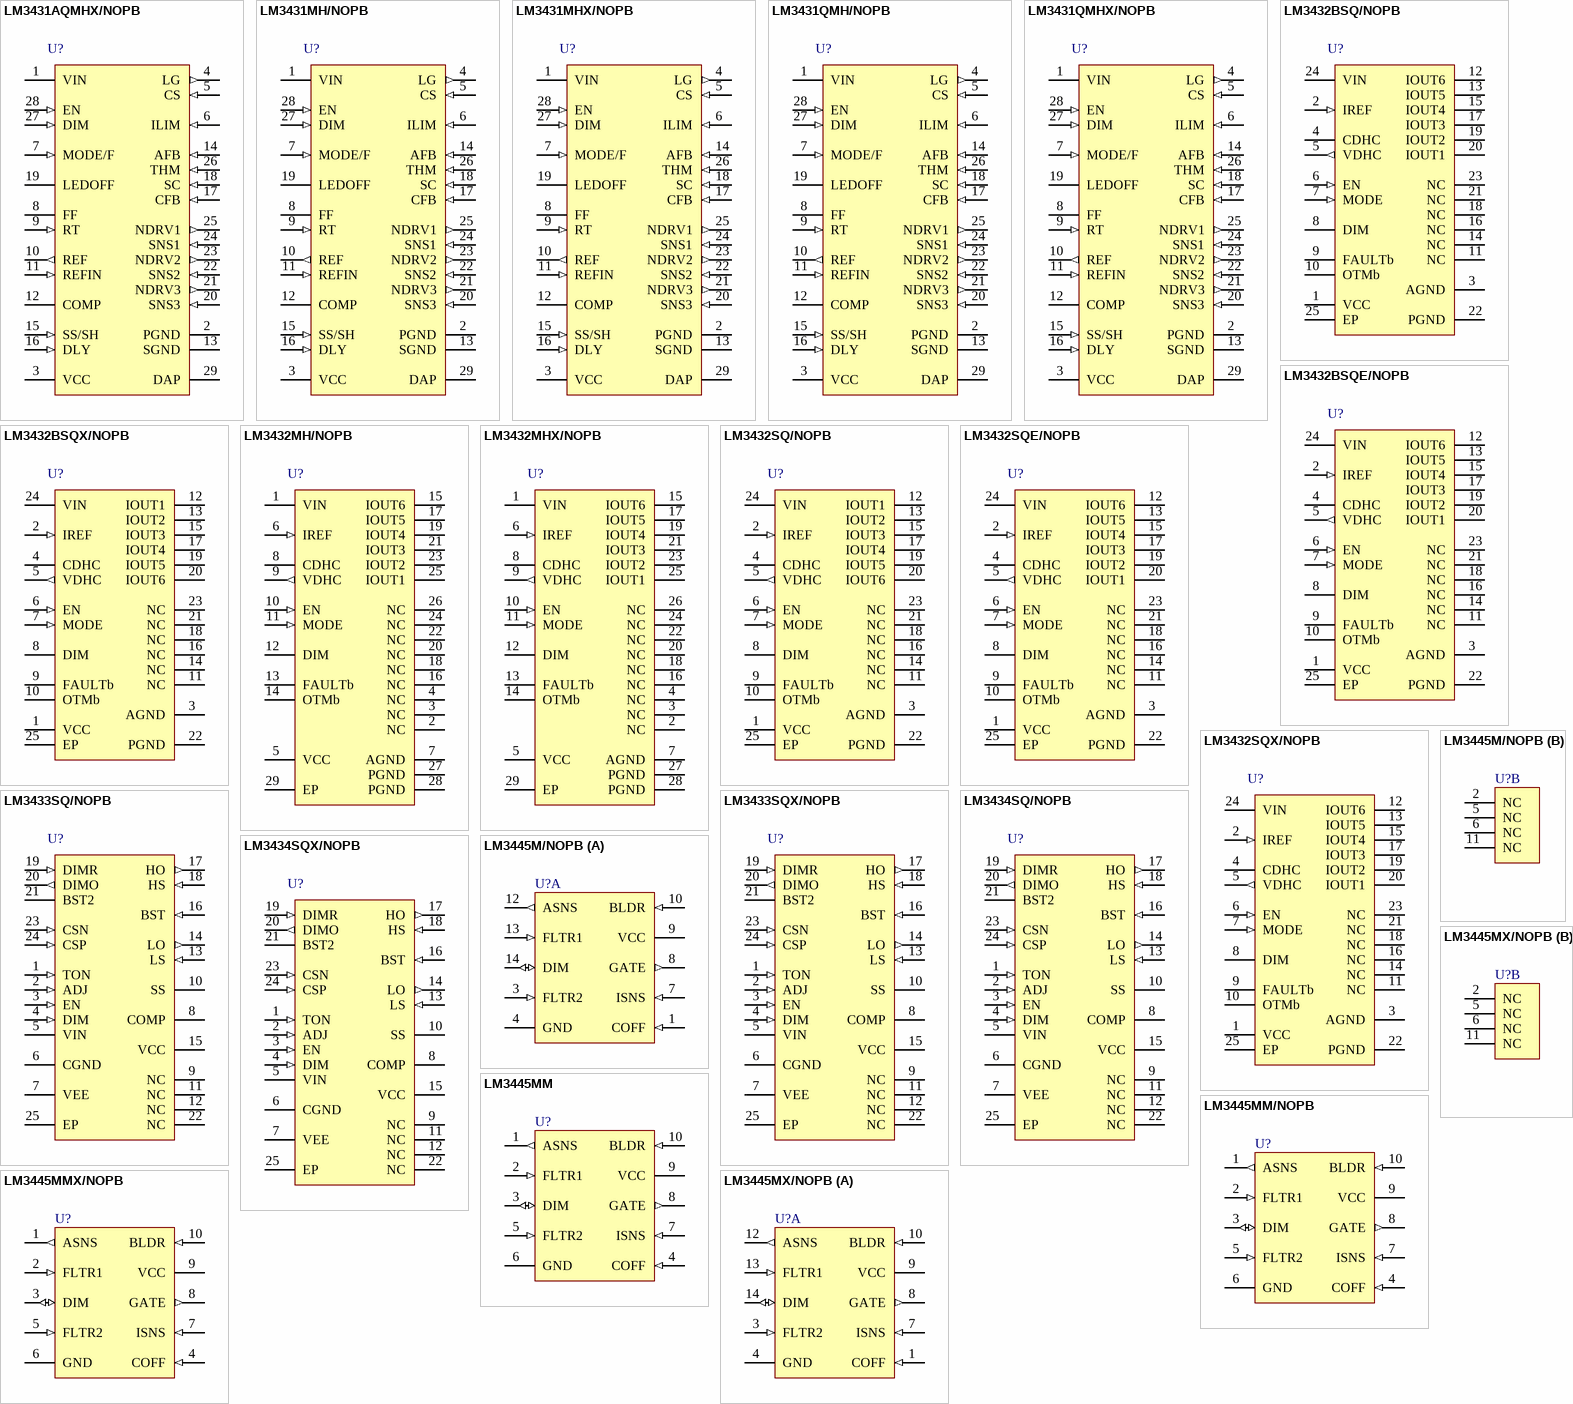
[diagram p12: symbols LM3431AQMHX/NOPB to LM3445MX/NOPB]

## LM3431AQMHX/NOPB
designator U?
3-Channel Constant Current LED Driver with Integrated Boost Controller, 28-pin TSSOP-EP, Pb-Free; PartNumber: LM3431AQMHX/NOPB; Manufacturer: National Semiconductor; PackageTopMarking: NSUZXYTTE#*LM3431*AQMH; PowerWise: N; CompType: MiscPower; Published: 1-Mar-2010; DatasheetVersion: Mar-2009; PackageVersion: revD, Oct-2003; PackageReference: MXA28A; Publisher: Altium Limited; PackageDescription: Molded TSSOP, Jedec, 9.7 x 4.4 x 0.9mm Body, 28 Lead, 0.65mm Pitch, Exposed Pad; Supplier 1: Digi-Key; Supplier Part Number 1: LM3431AQMHX-ND; RoHS: Y; PinCount: 28; Code_JEDEC: MO-153-AET; ComponentLink1Description: LM3431 Datasheet; ComponentLink1URL: http://www.national.com/ds/LM/LM3431.pdf; ComponentLink2Description: LM3431 Web Page; ComponentLink2URL: http://www.national.com/pf/LM/LM3431.html; ComponentLink3Description: MXA28A Package Page; ComponentLink3URL: http://www.national.com/packaging/folders/mxa28a.html
footprint MXA28A_N (TSOP, 28-Leads, Body 9.7x4.4mm, Pitch 0.65mm, Exposed Pad, IPC Medium Density)
footprint MXA28A_L (TSOP, 28-Leads, Body 9.7x4.4mm, Pitch 0.65mm, Exposed Pad, IPC High Density)
footprint MXA28A_M (TSOP, 28-Leads, Body 9.7x4.4mm, Pitch 0.65mm, Exposed Pad, IPC Low Density)
pins: 1 VIN (power), 2 PGND (power), 3 VCC (power), 4 LG (out), 5 CS (in), 6 ILIM (in), 7 MODE/F (in), 8 FF, 9 RT (in), 10 REF (out), 11 REFIN (in), 12 COMP, 13 SGND (power), 14 AFB (in), 15 SS/SH (in), 16 DLY (in), 17 CFB (in), 18 SC (in), 19 LEDOFF, 20 SNS3 (in), 21 NDRV3 (out), 22 SNS2 (in), 23 NDRV2 (out), 24 SNS1 (in), 25 NDRV1 (out), 26 THM (in), 27 DIM (in), 28 EN (in), 29 DAP (power)

## LM3431MH/NOPB
designator U?
3-Channel Constant Current LED Driver with Integrated Boost Controller, 28-pin TSSOP-EP, Pb-Free; PartNumber: LM3431MH/NOPB; Manufacturer: National Semiconductor; PackageTopMarking: NSUZXYTTE#*LM3431MH; PowerWise: Y; CompType: MiscPower; Published: 1-Mar-2010; DatasheetVersion: Jan-2008; PackageVersion: revD, Oct-2003; PackageReference: MXA28A; Publisher: Altium Limited; PackageDescription: Molded TSSOP, Jedec, 9.7 x 4.4 x 0.9mm Body, 28 Lead, 0.65mm Pitch, Exposed Pad; Supplier 1: Digi-Key; Supplier Part Number 1: LM3431MH-ND; Supplier 2: Farnell; Supplier Part Number 2: 1537461; RoHS: Y; PinCount: 28; Code_JEDEC: MO-153-AET; ComponentLink1Description: LM3431 Datasheet; ComponentLink1URL: http://www.national.com/ds/LM/LM3431.pdf; ComponentLink2Description: LM3431 Web Page; ComponentLink2URL: http://www.national.com/pf/LM/LM3431.html; ComponentLink3Description: MXA28A Package Page; ComponentLink3URL: http://www.national.com/packaging/folders/mxa28a.html
footprint MXA28A_N (TSOP, 28-Leads, Body 9.7x4.4mm, Pitch 0.65mm, Exposed Pad, IPC Medium Density)
footprint MXA28A_L (TSOP, 28-Leads, Body 9.7x4.4mm, Pitch 0.65mm, Exposed Pad, IPC High Density)
footprint MXA28A_M (TSOP, 28-Leads, Body 9.7x4.4mm, Pitch 0.65mm, Exposed Pad, IPC Low Density)
pins: 1 VIN (power), 2 PGND (power), 3 VCC (power), 4 LG (out), 5 CS (in), 6 ILIM (in), 7 MODE/F (in), 8 FF, 9 RT (in), 10 REF (out), 11 REFIN (in), 12 COMP, 13 SGND (power), 14 AFB (in), 15 SS/SH (in), 16 DLY (in), 17 CFB (in), 18 SC (in), 19 LEDOFF, 20 SNS3 (in), 21 NDRV3 (out), 22 SNS2 (in), 23 NDRV2 (out), 24 SNS1 (in), 25 NDRV1 (out), 26 THM (in), 27 DIM (in), 28 EN (in), 29 DAP (power)

## LM3431MHX/NOPB
designator U?
3-Channel Constant Current LED Driver with Integrated Boost Controller, 28-pin TSSOP-EP, Pb-Free; PartNumber: LM3431MHX/NOPB; Manufacturer: National Semiconductor; PackageTopMarking: NSUZXYTTE#*LM3431MH; PowerWise: Y; CompType: MiscPower; Published: 1-Mar-2010; DatasheetVersion: Jan-2008; PackageVersion: revD, Oct-2003; PackageReference: MXA28A; Publisher: Altium Limited; PackageDescription: Molded TSSOP, Jedec, 9.7 x 4.4 x 0.9mm Body, 28 Lead, 0.65mm Pitch, Exposed Pad; Supplier 1: Digi-Key; Supplier Part Number 1: LM3431MHXTR-ND; Supplier 2: Digi-Key; Supplier Part Number 2: LM3431MHXCT-ND; Supplier 3: Digi-Key; Supplier Part Number 3: LM3431MHXDKR-ND; RoHS: Y; PinCount: 28; Code_JEDEC: MO-153-AET; ComponentLink1Description: LM3431 Datasheet; ComponentLink1URL: http://www.national.com/ds/LM/LM3431.pdf; ComponentLink2Description: LM3431 Web Page; ComponentLink2URL: http://www.national.com/pf/LM/LM3431.html; ComponentLink3Description: MXA28A Package Page; ComponentLink3URL: http://www.national.com/packaging/folders/mxa28a.html
footprint MXA28A_N (TSOP, 28-Leads, Body 9.7x4.4mm, Pitch 0.65mm, Exposed Pad, IPC Medium Density)
footprint MXA28A_L (TSOP, 28-Leads, Body 9.7x4.4mm, Pitch 0.65mm, Exposed Pad, IPC High Density)
footprint MXA28A_M (TSOP, 28-Leads, Body 9.7x4.4mm, Pitch 0.65mm, Exposed Pad, IPC Low Density)
pins: 1 VIN (power), 2 PGND (power), 3 VCC (power), 4 LG (out), 5 CS (in), 6 ILIM (in), 7 MODE/F (in), 8 FF, 9 RT (in), 10 REF (out), 11 REFIN (in), 12 COMP, 13 SGND (power), 14 AFB (in), 15 SS/SH (in), 16 DLY (in), 17 CFB (in), 18 SC (in), 19 LEDOFF, 20 SNS3 (in), 21 NDRV3 (out), 22 SNS2 (in), 23 NDRV2 (out), 24 SNS1 (in), 25 NDRV1 (out), 26 THM (in), 27 DIM (in), 28 EN (in), 29 DAP (power)

## LM3431QMH/NOPB
designator U?
3-Channel Constant Current LED Driver with Integrated Boost Controller, 28-pin TSSOP-EP, Pb-Free; PartNumber: LM3431QMH/NOPB; Manufacturer: National Semiconductor; PackageTopMarking: NSUZXYTTE#*LM3431*QMH; PowerWise: N; CompType: MiscPower; Published: 1-Mar-2010; DatasheetVersion: Mar-2009; PackageVersion: revD, Oct-2003; PackageReference: MXA28A; Publisher: Altium Limited; PackageDescription: Molded TSSOP, Jedec, 9.7 x 4.4 x 0.9mm Body, 28 Lead, 0.65mm Pitch, Exposed Pad; Supplier 1: Digi-Key; Supplier Part Number 1: LM3431QMH-ND; RoHS: Y; PinCount: 28; Code_JEDEC: MO-153-AET; ComponentLink1Description: LM3431 Datasheet; ComponentLink1URL: http://www.national.com/ds/LM/LM3431.pdf; ComponentLink2Description: LM3431 Web Page; ComponentLink2URL: http://www.national.com/pf/LM/LM3431.html; ComponentLink3Description: MXA28A Package Page; ComponentLink3URL: http://www.national.com/packaging/folders/mxa28a.html
footprint MXA28A_N (TSOP, 28-Leads, Body 9.7x4.4mm, Pitch 0.65mm, Exposed Pad, IPC Medium Density)
footprint MXA28A_L (TSOP, 28-Leads, Body 9.7x4.4mm, Pitch 0.65mm, Exposed Pad, IPC High Density)
footprint MXA28A_M (TSOP, 28-Leads, Body 9.7x4.4mm, Pitch 0.65mm, Exposed Pad, IPC Low Density)
pins: 1 VIN (power), 2 PGND (power), 3 VCC (power), 4 LG (out), 5 CS (in), 6 ILIM (in), 7 MODE/F (in), 8 FF, 9 RT (in), 10 REF (out), 11 REFIN (in), 12 COMP, 13 SGND (power), 14 AFB (in), 15 SS/SH (in), 16 DLY (in), 17 CFB (in), 18 SC (in), 19 LEDOFF, 20 SNS3 (in), 21 NDRV3 (out), 22 SNS2 (in), 23 NDRV2 (out), 24 SNS1 (in), 25 NDRV1 (out), 26 THM (in), 27 DIM (in), 28 EN (in), 29 DAP (power)

## LM3431QMHX/NOPB
designator U?
3-Channel Constant Current LED Driver with Integrated Boost Controller, 28-pin TSSOP-EP, Pb-Free; PartNumber: LM3431QMHX/NOPB; Manufacturer: National Semiconductor; PackageTopMarking: NSUZXYTTE#*LM3431*QMH; PowerWise: N; CompType: MiscPower; Published: 1-Mar-2010; DatasheetVersion: Mar-2009; PackageVersion: revD, Oct-2003; PackageReference: MXA28A; Publisher: Altium Limited; PackageDescription: Molded TSSOP, Jedec, 9.7 x 4.4 x 0.9mm Body, 28 Lead, 0.65mm Pitch, Exposed Pad; Supplier 1: Digi-Key; Supplier Part Number 1: LM3431QMHX-ND; RoHS: Y; PinCount: 28; Code_JEDEC: MO-153-AET; ComponentLink1Description: LM3431 Datasheet; ComponentLink1URL: http://www.national.com/ds/LM/LM3431.pdf; ComponentLink2Description: LM3431 Web Page; ComponentLink2URL: http://www.national.com/pf/LM/LM3431.html; ComponentLink3Description: MXA28A Package Page; ComponentLink3URL: http://www.national.com/packaging/folders/mxa28a.html
footprint MXA28A_N (TSOP, 28-Leads, Body 9.7x4.4mm, Pitch 0.65mm, Exposed Pad, IPC Medium Density)
footprint MXA28A_L (TSOP, 28-Leads, Body 9.7x4.4mm, Pitch 0.65mm, Exposed Pad, IPC High Density)
footprint MXA28A_M (TSOP, 28-Leads, Body 9.7x4.4mm, Pitch 0.65mm, Exposed Pad, IPC Low Density)
pins: 1 VIN (power), 2 PGND (power), 3 VCC (power), 4 LG (out), 5 CS (in), 6 ILIM (in), 7 MODE/F (in), 8 FF, 9 RT (in), 10 REF (out), 11 REFIN (in), 12 COMP, 13 SGND (power), 14 AFB (in), 15 SS/SH (in), 16 DLY (in), 17 CFB (in), 18 SC (in), 19 LEDOFF, 20 SNS3 (in), 21 NDRV3 (out), 22 SNS2 (in), 23 NDRV2 (out), 24 SNS1 (in), 25 NDRV1 (out), 26 THM (in), 27 DIM (in), 28 EN (in), 29 DAP (power)

## LM3432BSQ/NOPB
designator U?
6-Channel Current Regulator for LED Backlight Application, 24-pin LLP, Pb-Free; PartNumber: LM3432BSQ/NOPB; Manufacturer: National Semiconductor; PackageTopMarking: NS*UZXYTT*3432BSQ; PowerWise: N; CompType: MiscPower; Published: 1-Mar-2010; DatasheetVersion: May-2008; PackageVersion: revA, Oct-2003; PackageReference: SQA24B; Publisher: Altium Limited; PackageDescription: LLP, Plastic, Quad, 5 x 4 x 0.8mm Body, 24 Lead, 0.5mm Pitch, No Pullback; Supplier 1: Digi-Key; Supplier Part Number 1: LM3432BSQ-ND; RoHS: Y; PinCount: 24; Code_JEDEC: MO-220-WGHD-1; ComponentLink1Description: LM3432B Datasheet; ComponentLink1URL: http://www.national.com/ds/LM/LM3432B.pdf; ComponentLink2Description: LM3432B Web Page; ComponentLink2URL: http://www.national.com/pf/LM/LM3432B.html; ComponentLink3Description: SQA24B Package Page; ComponentLink3URL: http://www.national.com/packaging/folders/sqa24b.html
footprint SQA24B (QFN, 24-Leads, Body 5x4mm, Pitch 0.5mm, NSC Recommended)
pins: 1 VCC (power), 2 IREF (in), 3 AGND (power), 4 CDHC, 5 VDHC (out), 6 EN (in), 7 MODE (in), 8 DIM, 9 FAULTb (oc), 10 OTMb (oc), 11 NC, 12 IOUT6 (oc), 13 IOUT5 (oc), 14 NC, 15 IOUT4 (oc), 16 NC, 17 IOUT3 (oc), 18 NC, 19 IOUT2 (oc), 20 IOUT1 (oc), 21 NC, 22 PGND (power), 23 NC, 24 VIN (power), 25 EP (power)

## LM3432BSQE/NOPB
designator U?
6-Channel Current Regulator for LED Backlight Application, 24-pin LLP, Pb-Free; PartNumber: LM3432BSQE/NOPB; Manufacturer: National Semiconductor; PackageTopMarking: NS*UZXYTT*3432BSQ; PowerWise: N; CompType: MiscPower; Published: 1-Mar-2010; DatasheetVersion: May-2008; PackageVersion: revA, Oct-2003; PackageReference: SQA24B; Publisher: Altium Limited; PackageDescription: LLP, Plastic, Quad, 5 x 4 x 0.8mm Body, 24 Lead, 0.5mm Pitch, No Pullback; Supplier 1: Digi-Key; Supplier Part Number 1: LM3432BSQETR-ND; Supplier 2: Digi-Key; Supplier Part Number 2: LM3432BSQECT-ND; Supplier 3: Digi-Key; Supplier Part Number 3: LM3432BSQEDKR-ND; RoHS: Y; PinCount: 24; Code_JEDEC: MO-220-WGHD-1; ComponentLink1Description: LM3432B Datasheet; ComponentLink1URL: http://www.national.com/ds/LM/LM3432.pdf; ComponentLink2Description: LM3432B Web Page; ComponentLink2URL: http://www.national.com/pf/LM/LM3432B.html; ComponentLink3Description: SQA24B Package Page; ComponentLink3URL: http://www.national.com/packaging/folders/sqa24b.html
footprint SQA24B (QFN, 24-Leads, Body 5x4mm, Pitch 0.5mm, NSC Recommended)
pins: 1 VCC (power), 2 IREF (in), 3 AGND (power), 4 CDHC, 5 VDHC (out), 6 EN (in), 7 MODE (in), 8 DIM, 9 FAULTb (oc), 10 OTMb (oc), 11 NC, 12 IOUT6 (oc), 13 IOUT5 (oc), 14 NC, 15 IOUT4 (oc), 16 NC, 17 IOUT3 (oc), 18 NC, 19 IOUT2 (oc), 20 IOUT1 (oc), 21 NC, 22 PGND (power), 23 NC, 24 VIN (power), 25 EP (power)

## LM3432BSQX/NOPB
designator U?
6-Channel Current Regulator for LED Backlight Application, 24-pin LLP, Pb-Free; PartNumber: LM3432BSQX/NOPB; Manufacturer: National Semiconductor; PackageTopMarking: NS*UZXYTT*3432BSQ; PowerWise: N; CompType: MiscPower; Published: 1-Mar-2010; DatasheetVersion: May-2008; PackageVersion: revA, Oct-2003; PackageReference: SQA24B; Publisher: Altium Limited; PackageDescription: LLP, Plastic, Quad, 5 x 4 x 0.8mm Body, 24 Lead, 0.5mm Pitch, No Pullback; Supplier 1: Digi-Key; Supplier Part Number 1: LM3432BSQX-ND; RoHS: Y; PinCount: 24; Code_JEDEC: MO-220-WGHD-1; ComponentLink1Description: LM3432B Datasheet; ComponentLink1URL: http://www.national.com/ds/LM/LM3432B.pdf; ComponentLink2Description: LM3432B Web Page; ComponentLink2URL: http://www.national.com/pf/LM/LM3432B.html; ComponentLink3Description: SQA24B Package Page; ComponentLink3URL: http://www.national.com/packaging/folders/sqa24b.html
footprint SQA24B (QFN, 24-Leads, Body 5x4mm, Pitch 0.5mm, NSC Recommended)
pins: 1 VCC (power), 2 IREF (in), 3 AGND (power), 4 CDHC, 5 VDHC (out), 6 EN (in), 7 MODE (in), 8 DIM, 9 FAULTb (oc), 10 OTMb (oc), 11 NC, 12 IOUT1 (oc), 13 IOUT2 (oc), 14 NC, 15 IOUT3 (oc), 16 NC, 17 IOUT4 (oc), 18 NC, 19 IOUT5 (oc), 20 IOUT6 (oc), 21 NC, 22 PGND (power), 23 NC, 24 VIN (power), 25 EP (power)

## LM3432MH/NOPB
designator U?
6-Channel Current Regulator for LED Backlight Application, 28-pin TSSOP-EP, Pb-Free; PartNumber: LM3432MH/NOPB; Manufacturer: National Semiconductor; PackageTopMarking: NSUZXYTTE#*LM3432*MH; PowerWise: N; CompType: MiscPower; Published: 1-Mar-2010; DatasheetVersion: May-2008; PackageVersion: revD, Oct-2003; PackageReference: MXA28A; Publisher: Altium Limited; PackageDescription: Molded TSSOP, Jedec, 9.7 x 4.4 x 0.9mm Body, 28 Lead, 0.65mm Pitch, Exposed Pad; Supplier 1: Digi-Key; Supplier Part Number 1: LM3432MH-ND; Supplier 2: Farnell; Supplier Part Number 2: 1675314; RoHS: Y; PinCount: 28; Code_JEDEC: MO-153-AET; ComponentLink1Description: LM3432 Datasheet; ComponentLink1URL: http://www.national.com/ds/LM/LM3432.pdf; ComponentLink2Description: LM3432 Web Page; ComponentLink2URL: http://www.national.com/pf/LM/LM3432.html; ComponentLink3Description: MXA28A Package Page; ComponentLink3URL: http://www.national.com/packaging/folders/mxa28a.html
footprint MXA28A_N (TSOP, 28-Leads, Body 9.7x4.4mm, Pitch 0.65mm, Exposed Pad, IPC Medium Density)
footprint MXA28A_L (TSOP, 28-Leads, Body 9.7x4.4mm, Pitch 0.65mm, Exposed Pad, IPC High Density)
footprint MXA28A_M (TSOP, 28-Leads, Body 9.7x4.4mm, Pitch 0.65mm, Exposed Pad, IPC Low Density)
pins: 1 VIN (power), 2 NC, 3 NC, 4 NC, 5 VCC (power), 6 IREF (in), 7 AGND (power), 8 CDHC, 9 VDHC (out), 10 EN (in), 11 MODE (in), 12 DIM, 13 FAULTb (oc), 14 OTMb (oc), 15 IOUT6 (oc), 16 NC, 17 IOUT5 (oc), 18 NC, 19 IOUT4 (oc), 20 NC, 21 IOUT3 (oc), 22 NC, 23 IOUT2 (oc), 24 NC, 25 IOUT1 (oc), 26 NC, 27 PGND (power), 28 PGND (power), 29 EP (power)

## LM3432MHX/NOPB
designator U?
6-Channel Current Regulator for LED Backlight Application, 28-pin TSSOP-EP, Pb-Free; PartNumber: LM3432MHX/NOPB; Manufacturer: National Semiconductor; PackageTopMarking: NSUZXYTTE#*LM3432*MH; PowerWise: N; CompType: MiscPower; Published: 1-Mar-2010; DatasheetVersion: May-2008; PackageVersion: revD, Oct-2003; PackageReference: MXA28A; Publisher: Altium Limited; PackageDescription: Molded TSSOP, Jedec, 9.7 x 4.4 x 0.9mm Body, 28 Lead, 0.65mm Pitch, Exposed Pad; Supplier 1: Digi-Key; Supplier Part Number 1: LM3432MHX-ND; RoHS: Y; PinCount: 28; Code_JEDEC: MO-153-AET; ComponentLink1Description: LM3432 Datasheet; ComponentLink1URL: http://www.national.com/ds/LM/LM3432.pdf; ComponentLink2Description: LM3432 Web Page; ComponentLink2URL: http://www.national.com/pf/LM/LM3432.html; ComponentLink3Description: MXA28A Package Page; ComponentLink3URL: http://www.national.com/packaging/folders/mxa28a.html
footprint MXA28A_N (TSOP, 28-Leads, Body 9.7x4.4mm, Pitch 0.65mm, Exposed Pad, IPC Medium Density)
footprint MXA28A_L (TSOP, 28-Leads, Body 9.7x4.4mm, Pitch 0.65mm, Exposed Pad, IPC High Density)
footprint MXA28A_M (TSOP, 28-Leads, Body 9.7x4.4mm, Pitch 0.65mm, Exposed Pad, IPC Low Density)
pins: 1 VIN (power), 2 NC, 3 NC, 4 NC, 5 VCC (power), 6 IREF (in), 7 AGND (power), 8 CDHC, 9 VDHC (out), 10 EN (in), 11 MODE (in), 12 DIM, 13 FAULTb (oc), 14 OTMb (oc), 15 IOUT6 (oc), 16 NC, 17 IOUT5 (oc), 18 NC, 19 IOUT4 (oc), 20 NC, 21 IOUT3 (oc), 22 NC, 23 IOUT2 (oc), 24 NC, 25 IOUT1 (oc), 26 NC, 27 PGND (power), 28 PGND (power), 29 EP (power)